# Altium footprint library lib.PcbLib: 40 footprints (part 2 of 3)
Each footprint in its own frame and in the unit in brackets; x right, y up, seen from the top. Pads: shape width x height; smd on the part's side, far side on the other; paste and mask are expansions set on the pad; w line width, h text height; cw(c..) or ccw(c..) is an arc to the next point about the centre after c.
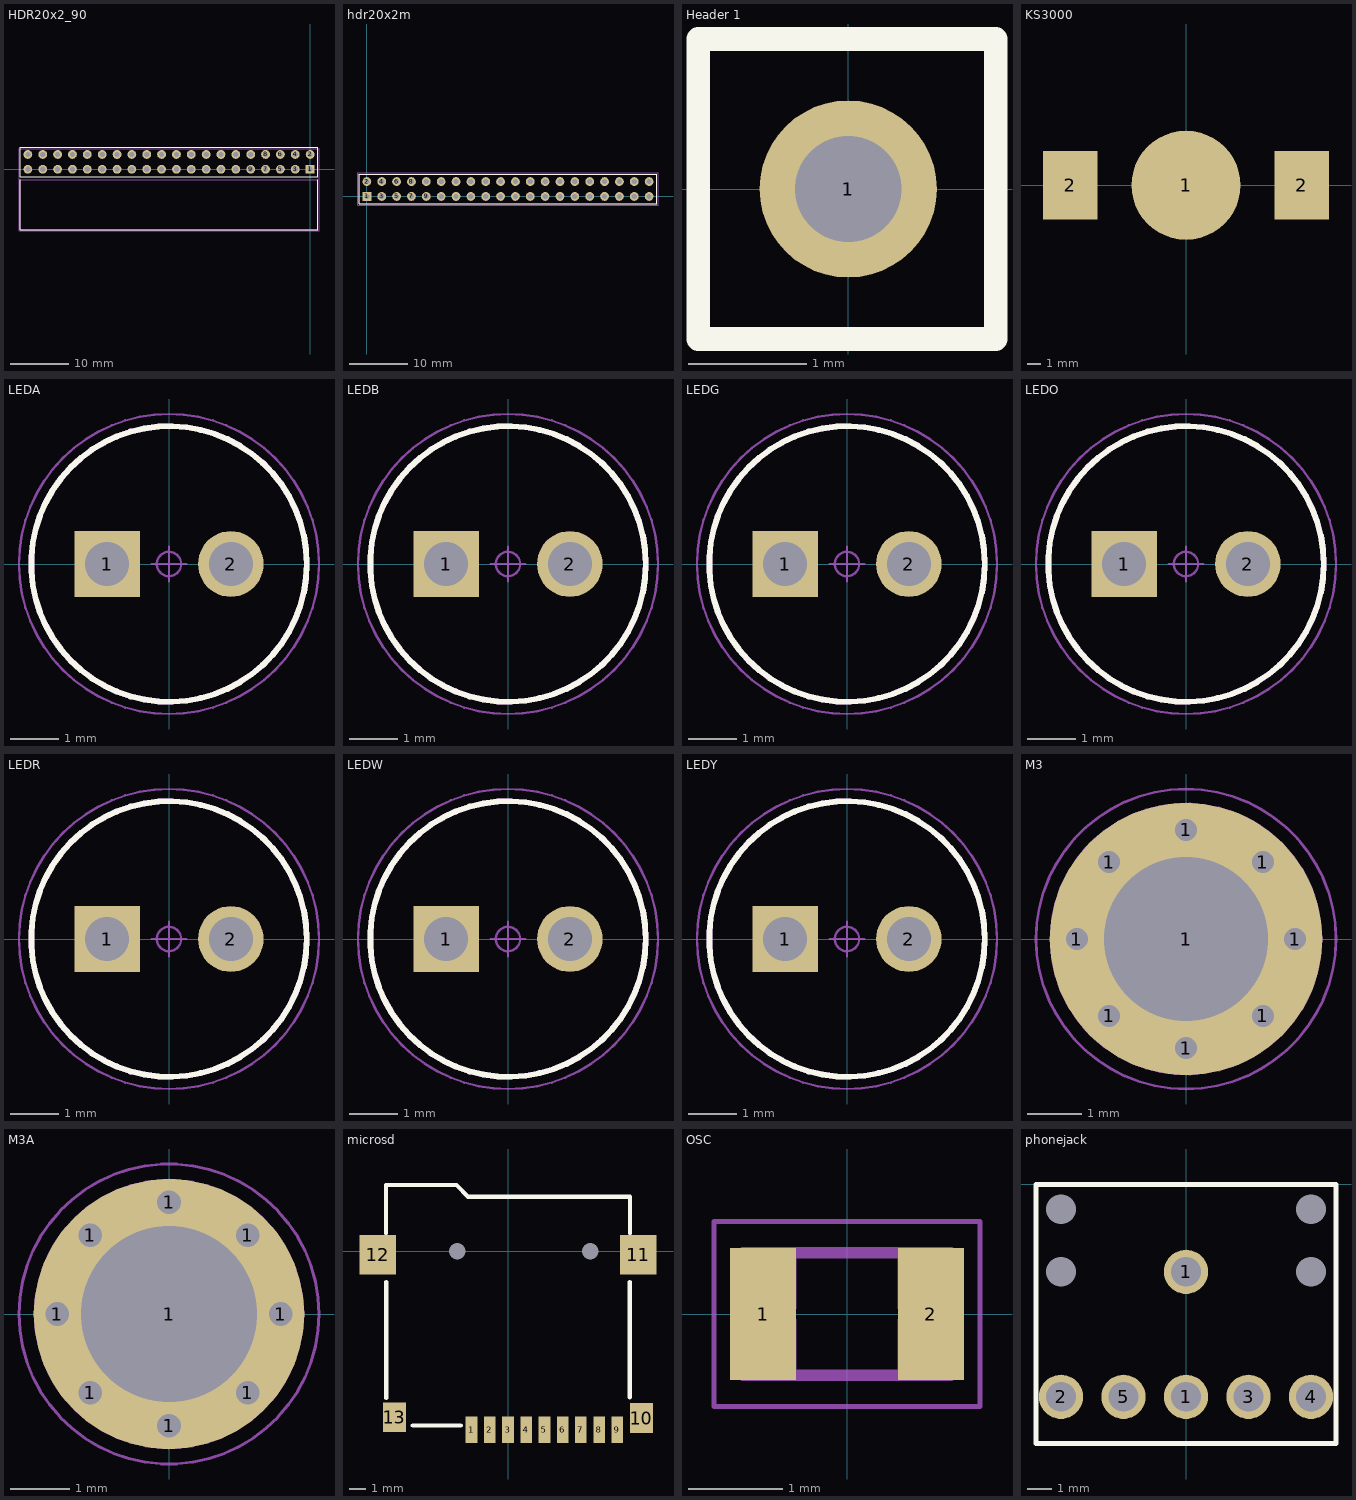
[diagram p1: the footprints below, top view; thin cyan lines are the x and y axes]

## HDR20x2_90 [mm] "Header, Right Angle Receptacle, 2.54 mm pitch; 0.65 mm lead width, 40 pins, 2 rows, 20 pins per row, 50.80 mm L X 8.50 mm W X 5.08 mm H body"
height 5.08
pads (40):
  rect 1.5x1.5 hole 0.9: 1(0,0)
  round 1.5 hole 0.9: 2(0,2.54) 3(-2.54,0) 4(-2.54,2.54) 5(-5.08,0) 6(-5.08,2.54) 7(-7.62,0) 8(-7.62,2.54) 9(-10.16,0) 10(-10.16,2.54) 11(-12.7,0) 12(-12.7,2.54) 13(-15.24,0) 14(-15.24,2.54) 15(-17.78,0) 16(-17.78,2.54) 17(-20.32,0) 18(-20.32,2.54) 19(-22.86,0) 20(-22.86,2.54) 21(-25.4,0) 22(-25.4,2.54) 23(-27.94,0) 24(-27.94,2.54) 25(-30.48,0) 26(-30.48,2.54) 27(-33.02,0) 28(-33.02,2.54) 29(-35.56,0) 30(-35.56,2.54) 31(-38.1,0) 32(-38.1,2.54) 33(-40.64,0) 34(-40.64,2.54) 35(-43.18,0) 36(-43.18,2.54) 37(-45.72,0) 38(-45.72,2.54) 39(-48.26,0) 40(-48.26,2.54)
Top Overlay:
  lines w0.12: -49.53,-1.8 -49.53,-10.3 1.27,-10.3 1.27,-1.8 ; -49.53,-1.27 1.27,-1.27 1.27,3.81 -49.53,3.81 -49.53,-1.27
Mechanical 11:
  lines w0.12: -49.53,-10.3 -49.53,-1.8 1.27,-1.8 1.27,-10.3 -49.53,-10.3
Mechanical 12:
  drawing of 164 lines, arcs and shapes, not listed
Mechanical 15:
  circle w0.05: c0,0 r0.25
  lines w0.05: -0.35,0 0.35,0 ; 0,-0.35 0,0.35 ; -49.78,-10.55 -49.78,3.54 1.52,3.54 1.52,-10.55 -49.78,-10.55
3D body "HDR20x2_90.STEP": height 5.08, standoff -2.3, extent -49.53,-10.39 1.27,2.865

## hdr20x2m [mm] "Header, Vertical, 2.54 mm pitch; 0.65 mm lead width, 40 pins, 2 rows, 20 pins per row, 50.80 mm L X 5.08 mm W X 8.60 mm H body"
height 8.6
pads (40):
  rect 1.5x1.5 hole 0.9 paste-1.5: 1(0,0)
  round 1.5 hole 0.9 paste-1.5: 2(0,2.54) 3(2.54,0) 4(2.54,2.54) 5(5.08,0) 6(5.08,2.54) 7(7.62,0) 8(7.62,2.54) 9(10.16,0) 10(10.16,2.54) 11(12.7,0) 12(12.7,2.54) 13(15.24,0) 14(15.24,2.54) 15(17.78,0) 16(17.78,2.54) 17(20.32,0) 18(20.32,2.54) 19(22.86,0) 20(22.86,2.54) 21(25.4,0) 22(25.4,2.54) 23(27.94,0) 24(27.94,2.54) 25(30.48,0) 26(30.48,2.54) 27(33.02,0) 28(33.02,2.54) 29(35.56,0) 30(35.56,2.54) 31(38.1,0) 32(38.1,2.54) 33(40.64,0) 34(40.64,2.54) 35(43.18,0) 36(43.18,2.54) 37(45.72,0) 38(45.72,2.54) 39(48.26,0) 40(48.26,2.54)
Top Overlay:
  lines w0.12: -1.27,-1.27 -1.27,3.81 49.53,3.81 49.53,-1.27 -1.27,-1.27
Mechanical 11:
  lines w0.12: -1.27,-1.27 -1.27,3.81 49.53,3.81 49.53,-1.27 -1.27,-1.27
Mechanical 12:
  drawing of 164 lines, arcs and shapes, not listed
Mechanical 15:
  circle w0.05: c0,0 r0.25
  lines w0.05: -0.35,0 0.35,0 ; 0,-0.35 0,0.35 ; -1.52,-1.52 -1.52,4.06 49.78,4.06 49.78,-1.52 -1.52,-1.52
3D body "hdr20x2m.STEP": height 8.6, standoff -2.3, extent -1.27,-1.27 49.53,3.81

## Header 1 [mm]
pads (1):
  round 1.5 hole 0.9: 1(0,0)
Top Overlay:
  lines w0.2: -1.27,-1.27 -1.27,1.27 1.25,1.27 1.25,-1.27 -1.27,-1.27

## KS3000 [mm]
pads (3):
  round 8 smd: 1(0,0)
  rect 4x5 smd: 2(-8.5,0) 2(8.5,0)
Top Solder:
  region: -6.45,-2.55 -2.35,-6.65 2.4,-6.65 6.45,-2.6 6.45,6.1 -6.45,6.1
3D body "bat-3000.stp": height 3.21, standoff 0.01, extent -9.729,-6.6 9.729,6.095

## LEDA [mm] "Radial (LED); 2.54 mm C X 5.65 mm Dia X 9.00 mm H body"
height 9
pads (2):
  rect 1.35x1.35 hole 0.9 paste-1.35: 1(-1.27,0)
  round 1.35 hole 0.9 paste-1.35: 2(1.27,0)
Top Overlay:
  circle w0.12: c0,0 r2.83
Mechanical 11:
  circle w0.12: c0,0 r2.83
Mechanical 12:
  circle w0.025: c0,0 r2.825
  circle w0.025: c1.27,0 r0.35
  circle w0.025: c-1.27,0 r0.35
Mechanical 15:
  circle w0.05: c0,0 r0.25
  circle w0.05: c0,0 r3.08
  lines w0.05: -0.35,0 0.35,0 ; 0,-0.35 0,0.35
3D body "LEDA.STEP": height 9, standoff -2, extent -2.825,-2.825 2.825,2.825

## LEDB [mm] "Radial (LED); 2.54 mm C X 5.65 mm Dia X 9.00 mm H body"
height 9
pads (2):
  rect 1.35x1.35 hole 0.9 paste-1.35: 1(-1.27,0)
  round 1.35 hole 0.9 paste-1.35: 2(1.27,0)
Top Overlay:
  circle w0.12: c0,0 r2.83
Mechanical 11:
  circle w0.12: c0,0 r2.83
Mechanical 12:
  circle w0.025: c-1.27,0 r0.35
  circle w0.025: c1.27,0 r0.35
  circle w0.025: c0,0 r2.825
Mechanical 15:
  circle w0.05: c0,0 r3.08
  circle w0.05: c0,0 r0.25
  lines w0.05: -0.35,0 0.35,0 ; 0,-0.35 0,0.35
3D body "ledb.stp": height 8.01, standoff -2.9, extent -2.49,-2.9 2.9,2.9

## LEDG [mm] "Radial (LED); 2.54 mm C X 5.65 mm Dia X 9.00 mm H body"
height 9
pads (2):
  rect 1.35x1.35 hole 0.9 paste-1.35: 1(-1.27,0)
  round 1.35 hole 0.9 paste-1.35: 2(1.27,0)
Top Overlay:
  circle w0.12: c0,0 r2.83
Mechanical 11:
  circle w0.12: c0,0 r2.83
Mechanical 12:
  circle w0.025: c0,0 r2.825
  circle w0.025: c1.27,0 r0.35
  circle w0.025: c-1.27,0 r0.35
Mechanical 15:
  circle w0.05: c0,0 r0.25
  circle w0.05: c0,0 r3.08
  lines w0.05: -0.35,0 0.35,0 ; 0,-0.35 0,0.35
3D body "ledg.stp": height 8.01, standoff -2.9, extent -2.49,-2.9 2.9,2.9

## LEDO [mm] "Radial (LED); 2.54 mm C X 5.65 mm Dia X 9.00 mm H body"
height 9
pads (2):
  rect 1.35x1.35 hole 0.9 paste-1.35: 1(-1.27,0)
  round 1.35 hole 0.9 paste-1.35: 2(1.27,0)
Top Overlay:
  circle w0.12: c0,0 r2.83
Mechanical 11:
  circle w0.12: c0,0 r2.83
Mechanical 12:
  circle w0.025: c-1.27,0 r0.35
  circle w0.025: c1.27,0 r0.35
  circle w0.025: c0,0 r2.825
Mechanical 15:
  circle w0.05: c0,0 r3.08
  circle w0.05: c0,0 r0.25
  lines w0.05: -0.35,0 0.35,0 ; 0,-0.35 0,0.35
3D body "ledo.stp": height 8.01, standoff -2.9, extent -2.49,-2.9 2.9,2.9

## LEDR [mm] "Radial (LED); 2.54 mm C X 5.65 mm Dia X 9.00 mm H body"
height 9
pads (2):
  rect 1.35x1.35 hole 0.9 paste-1.35: 1(-1.27,0)
  round 1.35 hole 0.9 paste-1.35: 2(1.27,0)
Top Overlay:
  circle w0.12: c0,0 r2.83
Mechanical 11:
  circle w0.12: c0,0 r2.83
Mechanical 12:
  circle w0.025: c-1.27,0 r0.35
  circle w0.025: c1.27,0 r0.35
  circle w0.025: c0,0 r2.825
Mechanical 15:
  circle w0.05: c0,0 r3.08
  circle w0.05: c0,0 r0.25
  lines w0.05: -0.35,0 0.35,0 ; 0,-0.35 0,0.35
3D body "ledr.stp": height 8.01, standoff -2.9, extent -2.49,-2.9 2.9,2.9

## LEDW [mm] "Radial (LED); 2.54 mm C X 5.65 mm Dia X 9.00 mm H body"
height 9
pads (2):
  rect 1.35x1.35 hole 0.9 paste-1.35: 1(-1.27,0)
  round 1.35 hole 0.9 paste-1.35: 2(1.27,0)
Top Overlay:
  circle w0.12: c0,0 r2.83
Mechanical 11:
  circle w0.12: c0,0 r2.83
Mechanical 12:
  circle w0.025: c-1.27,0 r0.35
  circle w0.025: c1.27,0 r0.35
  circle w0.025: c0,0 r2.825
Mechanical 15:
  circle w0.05: c0,0 r3.08
  circle w0.05: c0,0 r0.25
  lines w0.05: -0.35,0 0.35,0 ; 0,-0.35 0,0.35
3D body "ledw.stp": height 8.01, standoff -2.9, extent -2.49,-2.9 2.9,2.9

## LEDY [mm] "Radial (LED); 2.54 mm C X 5.65 mm Dia X 9.00 mm H body"
height 9
pads (2):
  rect 1.35x1.35 hole 0.9 paste-1.35: 1(-1.27,0)
  round 1.35 hole 0.9 paste-1.35: 2(1.27,0)
Top Overlay:
  circle w0.12: c0,0 r2.83
Mechanical 11:
  circle w0.12: c0,0 r2.83
Mechanical 12:
  circle w0.025: c-1.27,0 r0.35
  circle w0.025: c1.27,0 r0.35
  circle w0.025: c0,0 r2.825
Mechanical 15:
  circle w0.05: c0,0 r3.08
  circle w0.05: c0,0 r0.25
  lines w0.05: -0.35,0 0.35,0 ; 0,-0.35 0,0.35
3D body "ledy.stp": height 8.01, standoff -2.9, extent -2.49,-2.9 2.9,2.9

## M3 [mm] "Mounting Hole, Plated; 5.00 mm Pad, 3.00 mm Hole (with 8 vias)"
pads (9):
  round 0.6 hole 0.4 paste-0.6 mask-0.6: 1(-2,0) 1(-1.41,-1.41) 1(-1.41,1.41) 1(0,-2) 1(1.41,-1.41) 1(1.41,1.41) 1(2,0)
  round 5 hole 3: 1(0,0)
  round 0.6 hole 0.4 paste-0.4 mask-0.4: 1(0,2)
Mechanical 11:
  circle w0.12: c0,0 r1.44
  circle w0.12: c0,0 r2.44
Mechanical 14:
  circle w0.12: c0,0 r1.44
  circle w0.12: c0,0 r2.44
Mechanical 15:
  circle w0.05: c0,0 r0.25
  circle w0.05: c0,0 r2.75
  lines w0.05: -0.35,0 0.35,0 ; 0,-0.35 0,0.35

## M3A [mm] "Mounting Hole, Plated; 4.60 mm Pad, 3.00 mm Hole (with 8 vias)"
pads (9):
  round 0.6 hole 0.4 paste-0.6 mask-0.6: 1(-1.9,0) 1(-1.34,-1.34) 1(-1.34,1.34) 1(0,-1.9) 1(0,1.9) 1(1.34,-1.34) 1(1.34,1.34) 1(1.9,0)
  round 4.6 hole 3: 1(0,0)
Mechanical 11:
  circle w0.12: c0,0 r2.24
  circle w0.12: c0,0 r1.44
Mechanical 14:
  circle w0.12: c0,0 r2.24
  circle w0.12: c0,0 r1.44
Mechanical 15:
  circle w0.05: c0,0 r2.55
  circle w0.05: c0,0 r0.25
  lines w0.05: -0.35,0 0.35,0 ; 0,-0.35 0,0.35

## microsd [mm]
pads (15):
  rect 0.7x1.6 smd: 1(-2.2,-10.75) 2(-1.1,-10.75) 3(0,-10.75) 4(1.1,-10.75) 5(2.2,-10.75) 6(3.3,-10.75) 7(4.4,-10.75) 8(5.5,-10.75) 9(6.6,-10.75)
  rect 1.4x1.8 smd: 10(8.05,-10.05) 13(-6.85,-10)
  rect 2.2x2.4 smd: 11(7.85,-0.2) 12(-7.85,-0.2)
  round 0 hole 1 unplated mask-1: ""(-3.05,0) ""(4.95,0)
Top Overlay:
  lines w0.254: -7.366,1.1 -7.366,4 -3.111,4 -2.413,3.302 7.366,3.302 7.366,1.1 ; -7.35,-8.85 -7.35,-1.85 ; -5.75,-10.5 -2.85,-10.5 ; 7.35,-8.8 7.35,-1.85
3D body "sd-card.stp": height 2.2, standoff -0.5, extent -8.05,-11 8.05,6.2

## OSC [mm] "Oscillator, Corner Concave; 2.10 mm L X 1.225 mm W X 0.60 mm H body"
height 0.6
pads (2):
  rect 0.7x1.4 smd: 1(-0.889,0) 2(0.889,0)
Mechanical 11:
  lines w0.12: -1.1,-0.65 1.1,-0.65 1.1,0.65 -1.1,0.65 -1.1,-0.65
Mechanical 12:
  lines w0.025: -1.05,-0.613 1.05,-0.613 ; -1.05,-0.613 -1.05,0.613 ; -1.05,-0.613 -1.05,-0.062 -0.55,-0.062 -0.55,-0.613 -1.05,-0.613 ; -1.05,0.613 1.05,0.613 ; -1.05,0.613 -0.55,0.613 -0.55,0.062 -1.05,0.062 -1.05,0.613 ; 1.05,-0.613 1.05,0.613 ; 1.05,-0.613 0.55,-0.613 0.55,-0.062 1.05,-0.062 1.05,-0.613 ; 1.05,0.613 1.05,0.062 0.55,0.062 0.55,0.613 1.05,0.613
Mechanical 15:
  lines w0.05: -1.41,-0.98 1.41,-0.98 1.41,0.98 -1.41,0.98 -1.41,-0.98
3D body "OSC.STEP": height 0.6, standoff 0, extent -1.05,-0.613 1.05,0.613

## phonejack [mm]
height 5
pads (10):
  round 1.8 hole 1.2: 1(0,-8.636) 1(0,-3.556) 2(-5.08,-8.636) 3(2.54,-8.636) 4(5.08,-8.636) 5(-2.54,-8.636)
  round 1 hole 1.2 unplated: ""(-5.08,-3.556) ""(-5.08,-1.016) ""(5.08,-3.556) ""(5.08,-1.016)
Top Overlay:
  lines w0.2: -6.096,-10.541 6.096,-10.541 6.096,0 -6.096,0 -6.096,-10.541
3D body "phone.stp": height 2.8, standoff -6, extent -6.05,-11.1 5.95,2.9